# Altium schematic symbol library SamacSys.SchLib: 27 symbols
Pins are listed as number, name and electrical type; pins without a type are passive.

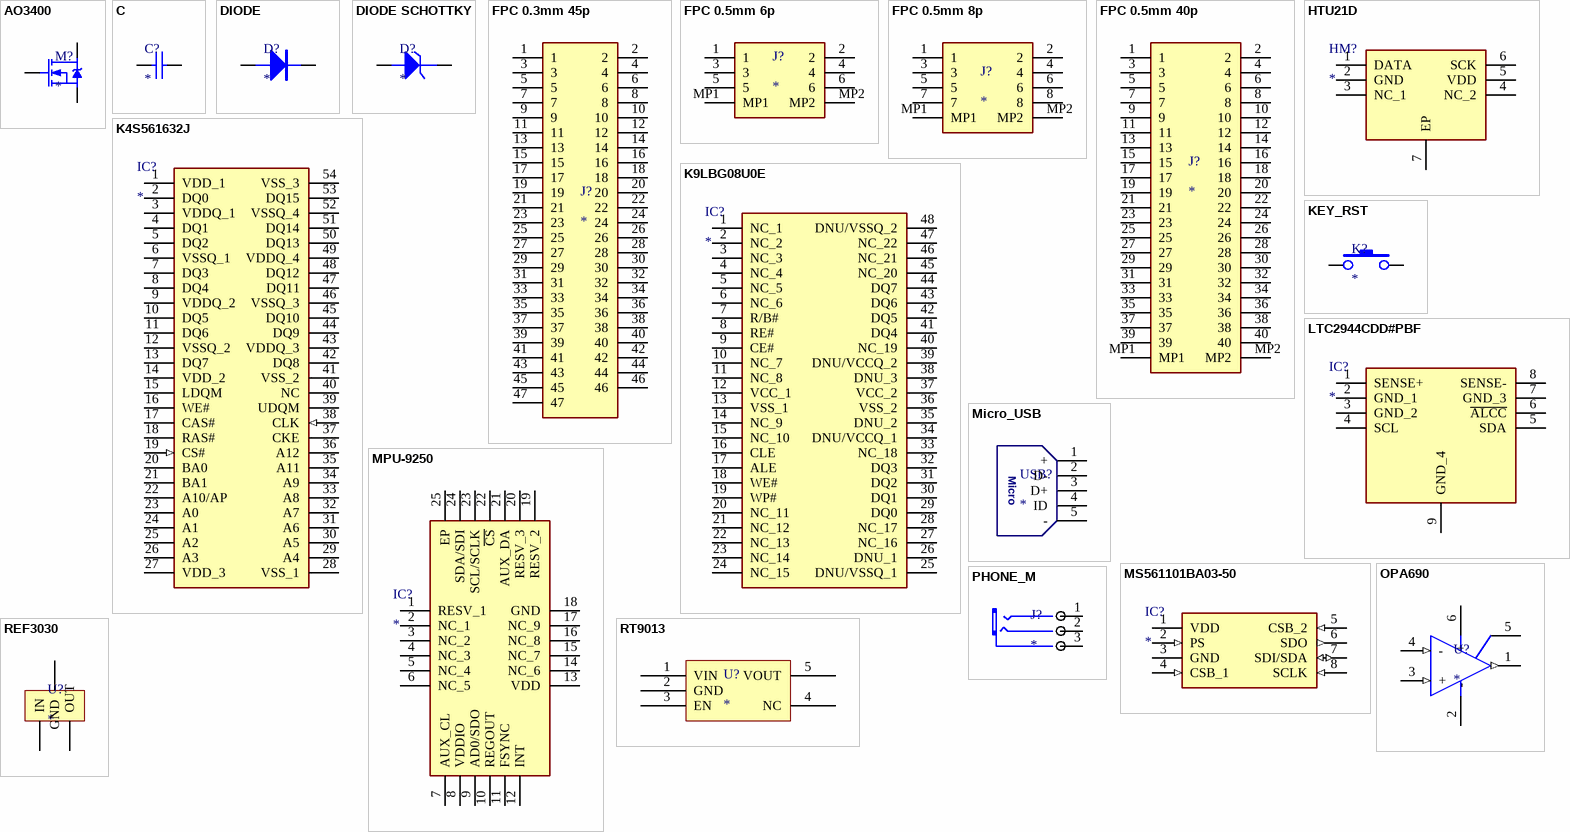
[diagram p0: symbols AO3400 to RT9013]

## AO3400
designator M?
N-MOS
footprint SOT23-MOS
pins: D, G, S

## C
designator C?
Cap
footprint 0402C
pins: 1, 2

## DIODE
designator D?
None
footprint DIODE
pins: A, K

## DIODE SCHOTTKY
designator D?
None
footprint DIODE
pins: A, K

## FPC 0.3mm 45p
designator J?
Connector; Manufacturer_Name: TE Connectivity; Manufacturer_Part_Number: 4-2328724-5; Allied_Number: 71364589; Datasheet Link: https://www.te.com/commerce/DocumentDelivery/DDEController?Action=showdoc&DocId=Customer+Drawing%7F2328724%7F3%7Fpdf%7FEnglish%7FENG_CD_2328724_3.pdf%7F4-2328724-5; Height: 1.1mm; Mouser Part Number: 571-4-2328724-5; Mouser Price/Stock: https://www.mouser.com/Search/Refine.aspx?Keyword=571-4-2328724-5; Allied Price/Stock: https://www.alliedelec.com/teconnectivity-4-2328724-5/71364589/
footprint FPC 0.3mm 45p
pins: 1, 2, 3, 4, 5, 6, 7, 8, 9, 10, 11, 12, 13, 14, 15, 16, 17, 18, 19, 20, 21, 22, 23, 24, 25, 26, 27, 28, 29, 30, 31, 32, 33, 34, 35, 36, 37, 38, 39, 40, 41, 42, 43, 44, 45, 46, 47

## FPC 0.5mm 6p
designator J?
Connector
footprint FPC 0.5mm 6p
pins: 1, 2, 3, 4, 5, 6, MP1, MP2

## FPC 0.5mm 8p
designator J?
Connector; Manufacturer_Name: KYOCERA; Manufacturer_Part_Number: 046288008000846+; Datasheet Link: https://componentsearchengine.com/Datasheets/2/046288008000846+.pdf; Height: 3.9mm; Mouser Part Number: 581-046288008000846+; RS Part Number: 8882709; RS Price/Stock: http://uk.rs-online.com/web/p/products/8882709
footprint FPC 0.5mm 8p
pins: 1, 2, 3, 4, 5, 6, 7, 8, MP1, MP2

## FPC 0.5mm 40p
designator J?
Connector; Manufacturer_Name: Kyocera Electronic Components; Manufacturer_Part_Number: 046240040023846+; Datasheet Link: https://componentsearchengine.com/Datasheets/1/046240040023846+.pdf; Height: 2mm; Mouser Part Number: 581-046240040023846+; Mouser Price/Stock: https://www.mouser.com/Search/Refine.aspx?Keyword=581-046240040023846%2B
footprint FPC 0.5mm 40p
pins: 1, 2, 3, 4, 5, 6, 7, 8, 9, 10, 11, 12, 13, 14, 15, 16, 17, 18, 19, 20, 21, 22, 23, 24, 25, 26, 27, 28, 29, 30, 31, 32, 33, 34, 35, 36, 37, 38, 39, 40, MP1, MP2

## HTU21D
designator HM?
Hygrometer; Manufacturer_Name: TE Connectivity; Manufacturer_Part_Number: HTU21D; Datasheet Link: http://www.te.com/commerce/DocumentDelivery/DDEController?Action=showdoc&DocId=Data+Sheet%7FHPC199_6%7FA6%7Fpdf%7FEnglish%7FENG_DS_HPC199_6_A6.pdf%7FCAT-HSC0004; Height: 1mm; Mouser Part Number: 824-HTU21D; Mouser Price/Stock: https://www.mouser.com/Search/Refine.aspx?Keyword=824-HTU21D
footprint SON100P300X300X100-7N-D
pins: 1 DATA, 2 GND, 3 NC_1, 4 NC_2, 5 VDD, 6 SCK, 7 EP

## K4S561632J
designator IC?
Integrated Circuit; Manufacturer_Name: Alliance Memory; Manufacturer_Part_Number: AS4C16M16S-7TCN; Datasheet Link: http://www.alliancememory.com/pdf/dram/256m-as4c16m16s.pdf; Height: 1.2mm; Mouser Part Number: 913-AS4C16M16S-7TCN; Mouser Price/Stock: https://www.mouser.com/Search/Refine.aspx?Keyword=913-AS4C16M16S-7TCN; RS Part Number: 7444545P; RS Price/Stock: http://uk.rs-online.com/web/p/products/7444545P
footprint SOP80P1176X120-54N
pins: 1 VDD_1 (power), 2 DQ0, 3 VDDQ_1 (power), 4 DQ1, 5 DQ2, 6 VSSQ_1 (power), 7 DQ3, 8 DQ4, 9 VDDQ_2 (power), 10 DQ5, 11 DQ6, 12 VSSQ_2 (power), 13 DQ7, 14 VDD_2 (power), 15 LDQM, 16 WE#, 17 CAS#, 18 RAS#, 19 CS# (in), 20 BA0, 21 BA1, 22 A10/AP, 23 A0, 24 A1, 25 A2, 26 A3, 27 VDD_3 (power), 28 VSS_1 (power), 29 A4, 30 A5, 31 A6, 32 A7, 33 A8, 34 A9, 35 A11, 36 A12, 37 CKE, 38 CLK (in), 39 UDQM, 40 NC, 41 VSS_2 (power), 42 DQ8, 43 VDDQ_3 (power), 44 DQ9, 45 DQ10, 46 VSSQ_3 (power), 47 DQ11, 48 DQ12, 49 VDDQ_4 (power), 50 DQ13, 51 DQ14, 52 VSSQ_4 (power), 53 DQ15, 54 VSS_3 (power)

## K9LBG08U0E
designator IC?
Integrated Circuit; Manufacturer_Name: Micron; Manufacturer_Part_Number: MT29F32G08ABAAAWP-ITZ:A; Datasheet Link: https://www.micron.com/~/media/documents/products/data-sheet/nand-flash/70-series/m73a_32gb_64gb_128gb_256gb_asyncsync_nand.pdf; Height: 1.2mm; Mouser Part Number: 340-200226-TRAY; Mouser Price/Stock: https://www.mouser.com/Search/Refine.aspx?Keyword=340-200226-TRAY
footprint SOP50P2000X120-48N
pins: 1 NC_1, 2 NC_2, 3 NC_3, 4 NC_4, 5 NC_5, 6 NC_6, 7 R/B#, 8 RE#, 9 CE#, 10 NC_7, 11 NC_8, 12 VCC_1, 13 VSS_1, 14 NC_9, 15 NC_10, 16 CLE, 17 ALE, 18 WE#, 19 WP#, 20 NC_11, 21 NC_12, 22 NC_13, 23 NC_14, 24 NC_15, 25 DNU/VSSQ_1, 26 DNU_1, 27 NC_16, 28 NC_17, 29 DQ0, 30 DQ1, 31 DQ2, 32 DQ3, 33 NC_18, 34 DNU/VCCQ_1, 35 DNU_2, 36 VSS_2, 37 VCC_2, 38 DNU_3, 39 DNU/VCCQ_2, 40 NC_19, 41 DQ4, 42 DQ5, 43 DQ6, 44 DQ7, 45 NC_20, 46 NC_21, 47 NC_22, 48 DNU/VSSQ_2

## KEY_RST
designator K?
None
footprint KEY_6p
pins: 1, 2

## LTC2944CDD#PBF
designator IC?
Integrated Circuit; Manufacturer_Name: Analog Devices; Manufacturer_Part_Number: LTC2944CDD#PBF; Datasheet Link: https://www.analog.com/media/en/technical-documentation/data-sheets/2944fa.pdf; Height: 0.8mm; Mouser Part Number: 584-LTC2944CDDPBF; Mouser Price/Stock: https://www.mouser.com/Search/Refine.aspx?Keyword=584-LTC2944CDDPBF
footprint SON50P300X300X80-9N-D
pins: 1 SENSE+, 2 GND_1, 3 GND_2, 4 SCL, 5 SDA, 6 ~{ALCC}, 7 GND_3, 8 SENSE-, 9 GND_4

## Micro_USB
designator USB?
Micro_USB
footprint Micro_USB_A
pins: 1 +, 2 D-, 3 D+, 4 ID, 5 -
text: Micro

## MPU-9250
designator IC?
Integrated Circuit; Manufacturer_Name: InvenSense Inc.; Datasheet Link: https://store.invensense.com/datasheets/invensense/MPU9250REV1.0.pdf; Height: 1.05mm; Manufacturer_Part_Number: MPU-9250; Mouser Part Number: 410-MPU-9250; Mouser Price/Stock: https://www.mouser.com/Search/Refine.aspx?Keyword=410-MPU-9250; RS Part Number: 8837942P; RS Price/Stock: http://uk.rs-online.com/web/p/products/8837942P
footprint QFN40P300X300X105-25N-D
pins: 1 RESV_1, 2 NC_1, 3 NC_2, 4 NC_3, 5 NC_4, 6 NC_5, 7 AUX_CL, 8 VDDIO, 9 AD0/SDO, 10 REGOUT, 11 FSYNC, 12 INT, 13 VDD, 14 NC_6, 15 NC_7, 16 NC_8, 17 NC_9, 18 GND, 19 RESV_2, 20 RESV_3, 21 AUX_DA, 22 ~{CS}, 23 SCL/SCLK, 24 SDA/SDI, 25 EP

## MS561101BA03-50
designator IC?
Integrated Circuit; Manufacturer_Name: TE Connectivity; Manufacturer_Part_Number: MS561101BA03-50; Datasheet Link: http://www.te.com/usa-en/search.html?q=ms5611&source=header; Mouser Part Number: 824-MS561101BA03-50; Mouser Price/Stock: https://www.mouser.com/Search/Refine.aspx?Keyword=824-MS561101BA03-50
footprint MS561101BA03-50
pins: 1 VDD (power), 2 PS (in), 3 GND (power), 4 CSB_1 (in), 5 CSB_2 (in), 6 SDO (out), 7 SDI/SDA (io), 8 SCLK (in)

## OPA690
designator U?
High Output Current
footprint SOT23-6
pins: 1 (out), 2 -, 3 + (in), 4 - (in), 5, 6 +

## PHONE_M
designator J?
PHONE_M
footprint PJ-320D
pins: 1 CHL, 2 CHR, 3 COM

## REF3030
designator U?
3V 电压基准
footprint SOT23-3
pins: 1 IN, 2 OUT, 3 GND

## RT9013
designator U?
3.3VLDO
footprint SOT23-5
pins: 1 VIN, 2 GND, 3 EN, 4 NC, 5 VOUT

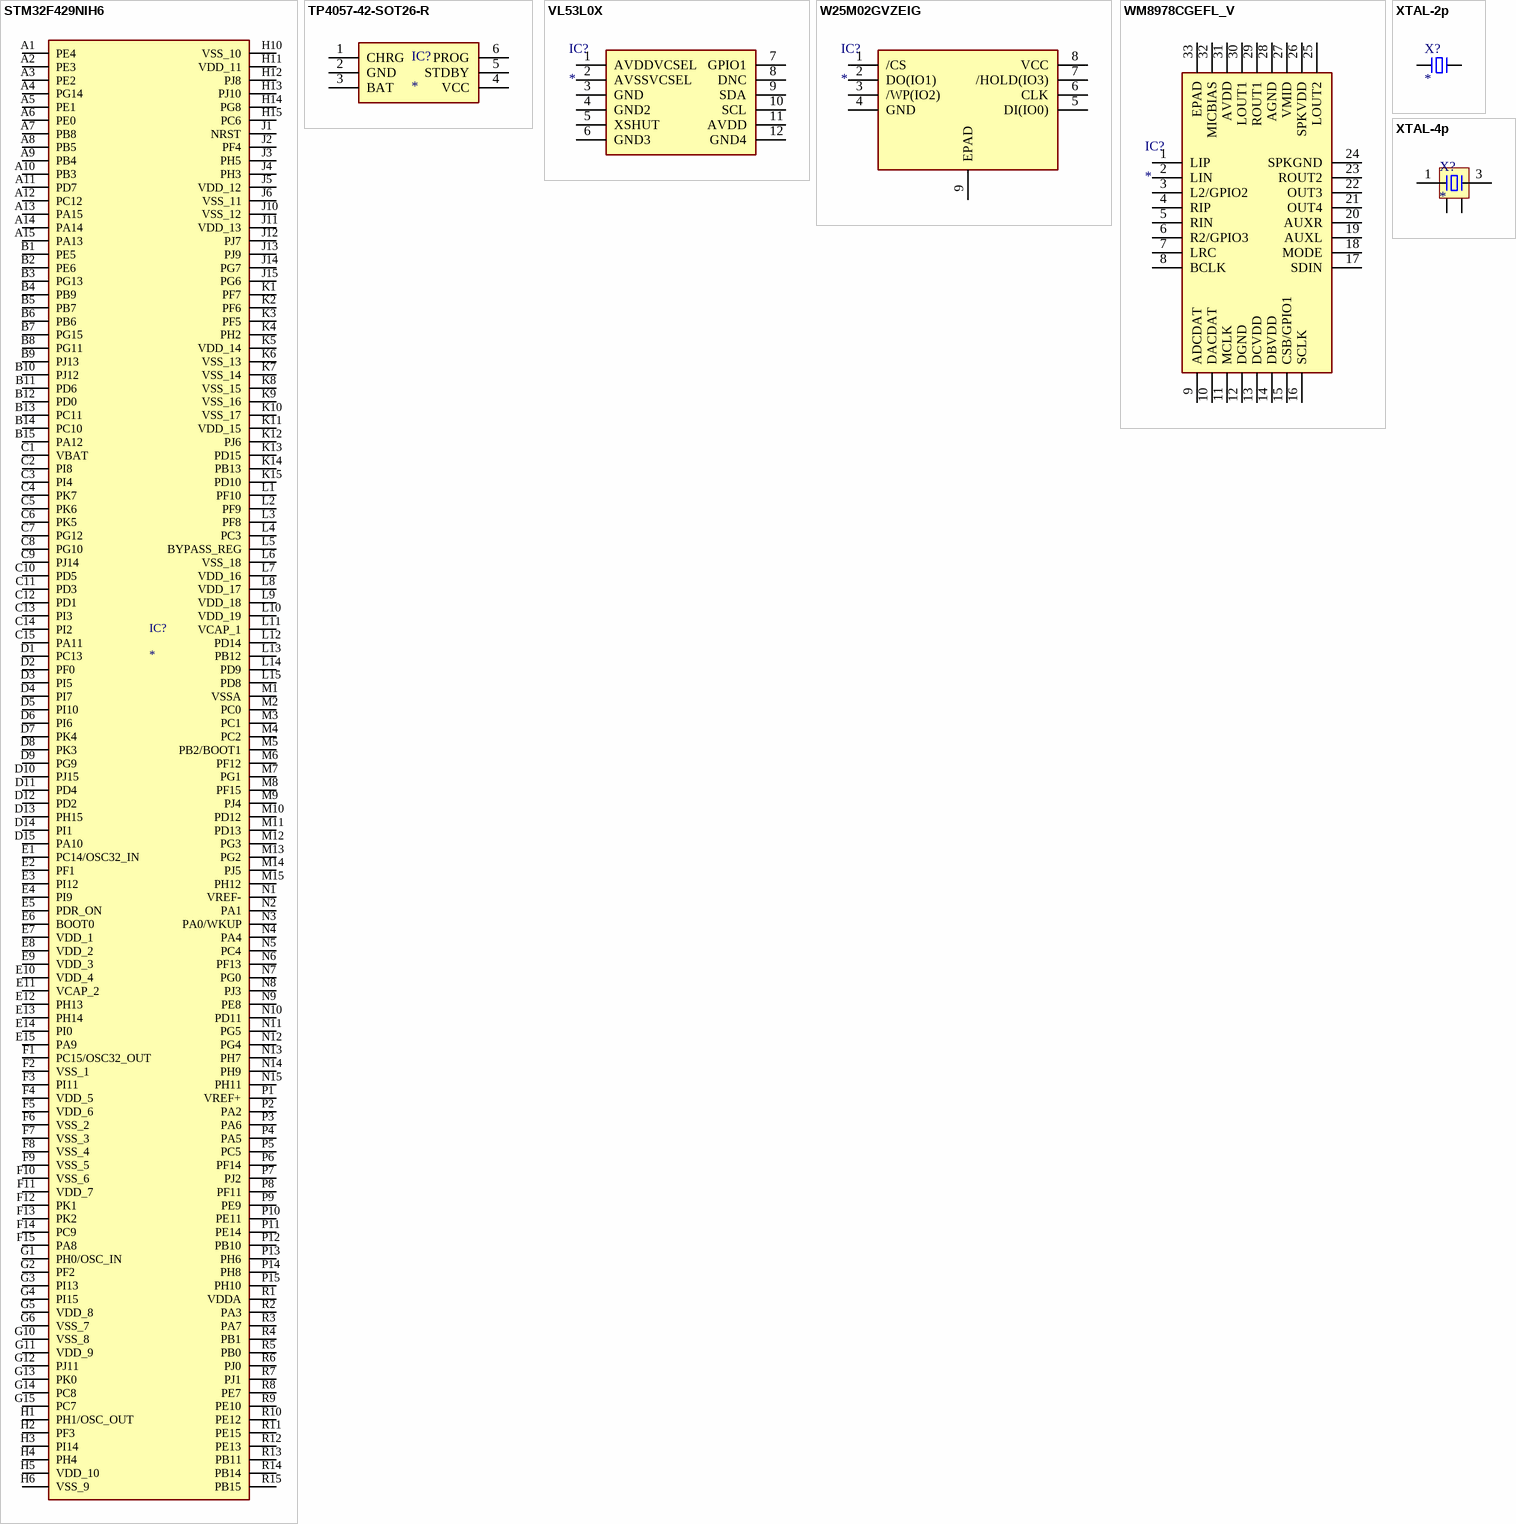
[diagram p1: symbols STM32F429NIH6 to XTAL-4p]

## STM32F429NIH6
designator IC?
Integrated Circuit; Manufacturer_Name: STMicroelectronics; Manufacturer_Part_Number: STM32F429NIH6; Datasheet Link: http://www.st.com/content/ccc/resource/technical/document/datasheet/03/b4/b2/36/4c/72/49/29/DM00071990.pdf/files/DM00071990.pdf/jcr:content/translations/en.DM00071990.pdf; Height: 1.1mm; Mouser Part Number: 511-STM32F429NIH6; Mouser Price/Stock: https://www.mouser.com/Search/Refine.aspx?Keyword=511-STM32F429NIH6; RS Part Number: 9074750; RS Price/Stock: https://uk.rs-online.com/web/p/products/9074750
footprint BGA216C80P15X15_1300X1300X110
pins: A1 PE4, A2 PE3, A3 PE2, A4 PG14, A5 PE1, A6 PE0, A7 PB8, A8 PB5, A9 PB4, A10 PB3, A11 PD7, A12 PC12, A13 PA15, A14 PA14, A15 PA13, B1 PE5, B2 PE6, B3 PG13, B4 PB9, B5 PB7, B6 PB6, B7 PG15, B8 PG11, B9 PJ13, B10 PJ12, B11 PD6, B12 PD0, B13 PC11, B14 PC10, B15 PA12, C1 VBAT (power), C2 PI8, C3 PI4, C4 PK7, C5 PK6, C6 PK5, C7 PG12, C8 PG10, C9 PJ14, C10 PD5, C11 PD3, C12 PD1, C13 PI3, C14 PI2, C15 PA11, D1 PC13, D2 PF0, D3 PI5, D4 PI7, D5 PI10, D6 PI6, D7 PK4, D8 PK3, D9 PG9, D10 PJ15, D11 PD4, D12 PD2, D13 PH15, D14 PI1, D15 PA10, E1 PC14/OSC32_IN, E2 PF1, E3 PI12, E4 PI9, E5 PDR_ON, E6 BOOT0, E7 VDD_1 (power), E8 VDD_2 (power), E9 VDD_3 (power), E10 VDD_4 (power), E11 VCAP_2 (power), E12 PH13, E13 PH14, E14 PI0, E15 PA9, F1 PC15/OSC32_OUT, F2 VSS_1 (power), F3 PI11, F4 VDD_5 (power), F5 VDD_6 (power), F6 VSS_2 (power), F7 VSS_3 (power), F8 VSS_4 (power), F9 VSS_5 (power), F10 VSS_6 (power), F11 VDD_7 (power), F12 PK1, F13 PK2, F14 PC9, F15 PA8, G1 PH0/OSC_IN, G2 PF2, G3 PI13, G4 PI15, G5 VDD_8 (power), G6 VSS_7 (power), G10 VSS_8 (power), G11 VDD_9 (power), G12 PJ11, G13 PK0, G14 PC8, G15 PC7, H1 PH1/OSC_OUT, H2 PF3, H3 PI14, H4 PH4, H5 VDD_10 (power), H6 VSS_9 (power), H10 VSS_10 (power), H11 VDD_11 (power), H12 PJ8, H13 PJ10, H14 PG8, H15 PC6, J1 NRST, J2 PF4, J3 PH5, J4 PH3, J5 VDD_12 (power), J6 VSS_11 (power), J10 VSS_12 (power), J11 VDD_13 (power), J12 PJ7, J13 PJ9, J14 PG7, J15 PG6, K1 PF7, K2 PF6, K3 PF5, K4 PH2, K5 VDD_14 (power), K6 VSS_13 (power), K7 VSS_14 (power), K8 VSS_15 (power), K9 VSS_16 (power), K10 VSS_17 (power), K11 VDD_15 (power), K12 PJ6, K13 PD15, K14 PB13, K15 PD10, L1 PF10, L2 PF9, L3 PF8, L4 PC3, L5 BYPASS_REG, L6 VSS_18 (power), L7 VDD_16 (power), L8 VDD_17 (power), L9 VDD_18 (power), L10 VDD_19 (power), L11 VCAP_1 (power), L12 PD14, L13 PB12, L14 PD9, L15 PD8, M1 VSSA (power), M2 PC0, M3 PC1, M4 PC2, M5 PB2/BOOT1, M6 PF12, M7 PG1, M8 PF15, M9 PJ4, M10 PD12, M11 PD13, M12 PG3, M13 PG2, M14 PJ5, M15 PH12, N1 VREF- (power), N2 PA1, N3 PA0/WKUP, N4 PA4, N5 PC4, N6 PF13, N7 PG0, N8 PJ3, N9 PE8, N10 PD11, N11 PG5, N12 PG4, N13 PH7, N14 PH9, N15 PH11, P1 VREF+ (power), P2 PA2, P3 PA6, P4 PA5, P5 PC5, P6 PF14, P7 PJ2, P8 PF11, P9 PE9, P10 PE11, P11 PE14, P12 PB10, P13 PH6, P14 PH8, P15 PH10, R1 VDDA (power), R2 PA3, R3 PA7, R4 PB1, R5 PB0, R6 PJ0, R7 PJ1, R8 PE7, R9 PE10, R10 PE12, R11 PE15, R12 PE13, R13 PB11, R14 PB14, R15 PB15

## TP4057-42-SOT26-R
designator IC?
Integrated Circuit; Manufacturer_Name: Nanjing Extension Microelectronics; Manufacturer_Part_Number: TP4057-42-SOT26-R; Datasheet Link: https://datasheet.lcsc.com/szlcsc/Nanjing-Extension-Microelectronics-TP4057_C12044.pdf; Height: 1.25mm
footprint SOT23-6
pins: 1 CHRG, 2 GND, 3 BAT, 4 VCC, 5 STDBY, 6 PROG

## VL53L0X
designator IC?
Integrated Circuit; Manufacturer_Name: STMicroelectronics; Manufacturer_Part_Number: VL53L0X; Datasheet Link: https://www.mouser.com/ds/2/389/vl53l0x-1156212.pdf; Height: 1mm
footprint VL53L0X
pins: 1 AVDDVCSEL, 2 AVSSVCSEL, 3 GND, 4 GND2, 5 XSHUT, 6 GND3, 7 GPIO1, 8 DNC, 9 SDA, 10 SCL, 11 AVDD, 12 GND4

## W25M02GVZEIG
designator IC?
Integrated Circuit; Manufacturer_Name: Winbond; Manufacturer_Part_Number: W25M02GVZEIG; Datasheet Link: https://www.winbond.com/resource-files/w25m02gv%20revb%20070115.pdf; Height: 0.8mm; Mouser Part Number: 454-W25M02GVZEIG; Mouser Price/Stock: https://www.mouser.com/Search/Refine.aspx?Keyword=454-W25M02GVZEIG
footprint SON127P800X600X80-9N-D
pins: 1 /CS, 2 DO(IO1), 3 /WP(IO2), 4 GND, 5 DI(IO0), 6 CLK, 7 /HOLD(IO3), 8 VCC, 9 EPAD

## WM8978CGEFL_V
designator IC?
Integrated Circuit; Manufacturer_Name: WOLFSON MICROELECTRONICS; Manufacturer_Part_Number: WM8978CGEFL/V; Datasheet Link: https://componentsearchengine.com/Datasheets/2/WM8978CGEFL_V.pdf; Height: 1mm
footprint QFN50P500X500X100-33N
pins: 1 LIP, 2 LIN, 3 L2/GPIO2, 4 RIP, 5 RIN, 6 R2/GPIO3, 7 LRC, 8 BCLK, 9 ADCDAT, 10 DACDAT, 11 MCLK, 12 DGND, 13 DCVDD, 14 DBVDD, 15 CSB/GPIO1, 16 SCLK, 17 SDIN, 18 MODE, 19 AUXL, 20 AUXR, 21 OUT4, 22 OUT3, 23 ROUT2, 24 SPKGND, 25 LOUT2, 26 SPKVDD, 27 VMID, 28 AGND, 29 ROUT1, 30 LOUT1, 31 AVDD, 32 MICBIAS, 33 EPAD

## XTAL-2p
designator X?
无源晶振
footprint XTAL-2p
pins: 1, 2

## XTAL-4p
designator X?
无源晶振
footprint OSC_3225_4p
footprint OSC_5032_4p
pins: 1, 2, 3, 4